# EAGLE library part MAT02 (library transistors)
MAT02: Matched NPN transistor pair (Analog Devices) 40V Uce, 20mA Ic, 200-600 hfe 50µV offset, 2nV/rt(Hz) noise, 200MHz GBW Complementary type MAT03
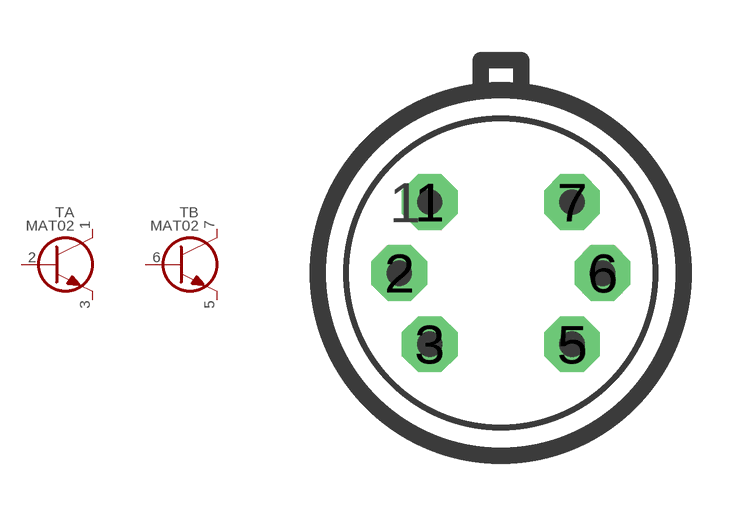
[diagram p1: symbol with the pads of TO78-6; footprint TO78-6]

Designator prefix T; gates A=TNPN B=TNPN

## MAT02  [TO78-6]
1  A:C
2  A:B
3  A:E
5  B:E
6  B:B
7  B:C

## Footprint TO78-6 (pad centres in mm)
TO-78 Metal can package, 6 pins
drill 0.813 pad 1.397 octagon: 1 0,0; 2 -0.762,-1.778; 3 0,-3.556; 5 3.556,-3.556; 6 4.318,-1.778; 7 3.556,0